# EAGLE library part RF2500TSHORT (library aurigaBot)
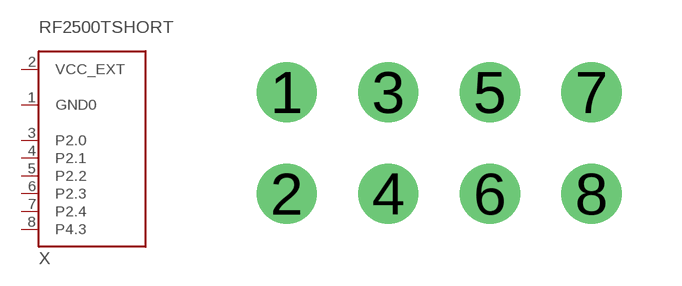
[diagram p15: symbol with the pads of RF2500T_SHORT; footprint RF2500T_SHORT]

Designator prefix X

## RF2500TSHORT  [RF2500T_SHORT]
1  GND0  pwr
2  VCC_EXT  pwr
3  P2.0
4  P2.1
5  P2.2
6  P2.3
7  P2.4
8  P4.3

## Footprint RF2500T_SHORT (pad centres in mm)
drill 1 pad 1.5 round: 1 -3.78,1.35; 2 -3.78,-1.19; 3 -1.24,1.35; 4 -1.24,-1.19; 5 1.3,1.35; 6 1.3,-1.19; 7 3.84,1.35; 8 3.84,-1.19